# Altium footprint library SMD-6 Flat Lead.PcbLib: 1 footprints
Each footprint in its own frame and in the unit in brackets; x right, y up, seen from the top. Pads: shape width x height; smd on the part's side, far side on the other; paste and mask are expansions set on the pad; w line width, h text height; cw(c..) or ccw(c..) is an arc to the next point about the centre after c.
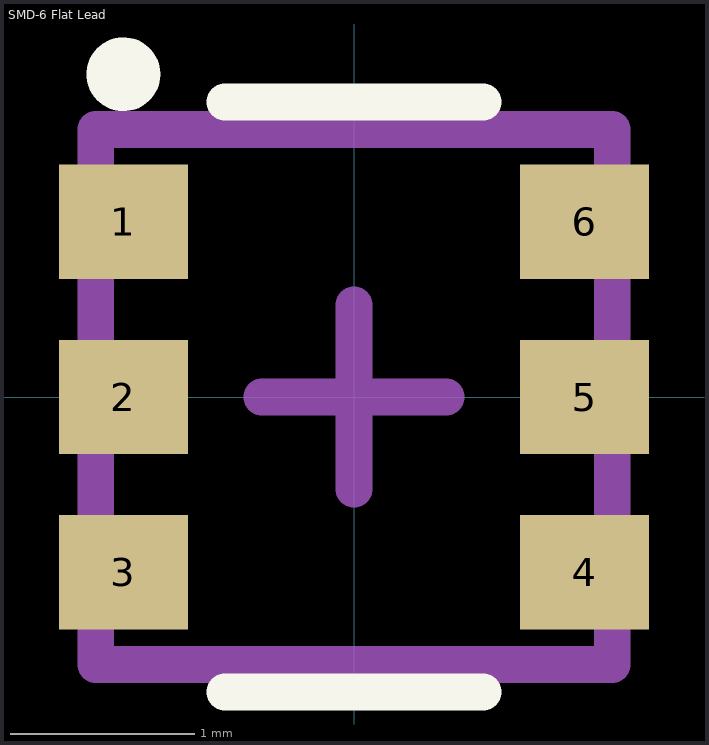
[diagram p0: the footprint, top view; thin cyan lines are the x and y axes]

## SMD-6 Flat Lead [mm]
pads (6):
  rect 0.7x0.62 smd mask+0.05: 1(-1.25,0.95) 2(-1.25,0) 3(-1.25,-0.95) 4(1.25,-0.95) 5(1.25,0) 6(1.25,0.95)
Top Overlay:
  circle w0.2: c-1.25,1.75 r0.1
  lines w0.2: -0.7,-1.6 0.7,-1.6 ; -0.7,1.6 0.7,1.6
Top Designator:
  text ".Designator" at -7.618,-0.383 h1.52
3D Body:
  lines w0.2: -1.4,-1.45 -1.4,1.45 1.4,1.45 1.4,-1.45 -1.4,-1.45
Center Cross:
  lines w0.2: -0.5,0 0,0 ; 0,-0.5 0,0 ; 0,0.5 0,0 ; 0.5,0 0,0
3D body "SMD-6 Flat Lead.STEP": height 0.81, standoff 0, extent -1.4,-1.45 1.4,1.45